# EAGLE library part 74LVC1G123 (library yapo)
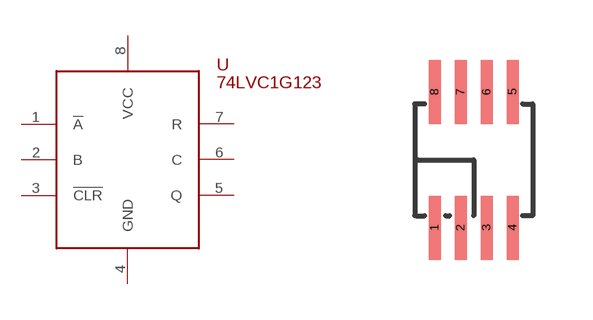
[diagram p4: symbol with the pads of SM8; footprint SM8]

Designator prefix -

## 74LVC1G123  [SM8]
1  !A!
2  B
3  !CLR!
4  GND
5  Q
6  C
7  R
8  VCC

## Footprint SM8 (pad centres in mm)
smd 0.3 x 1.6: 1 -0.975,-1.7; 2 -0.325,-1.7; 3 0.325,-1.7; 4 0.975,-1.7; 5 0.975,1.7; 6 0.325,1.7; 7 -0.325,1.7; 8 -0.975,1.7